# Altium footprint library OSC_ECS-3961-160-AU-TR.PcbLib: 1 footprints
Each footprint in its own frame and in the unit in brackets; x right, y up, seen from the top. Pads: shape width x height; smd on the part's side, far side on the other; paste and mask are expansions set on the pad; w line width, h text height; cw(c..) or ccw(c..) is an arc to the next point about the centre after c.
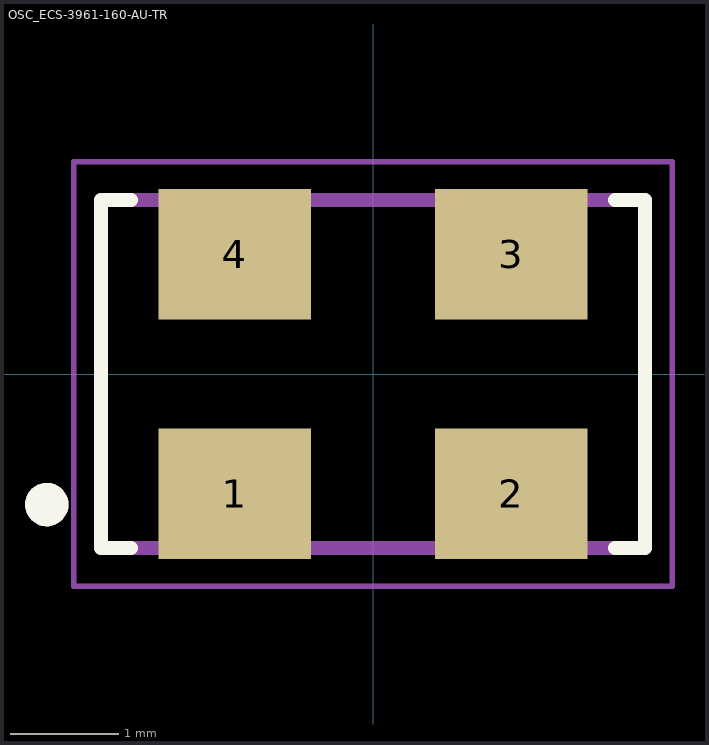
[diagram p0: the footprint, top view; thin cyan lines are the x and y axes]

## OSC_ECS-3961-160-AU-TR [mm]
pads (4):
  rect 1.4x1.2 smd: 1(-1.27,-1.1) 2(1.27,-1.1) 3(1.27,1.1) 4(-1.27,1.1)
Top Overlay:
  circle w0.2: c-3,-1.2 r0.1
  lines w0.127: -2.224,-1.6 -2.5,-1.6 -2.5,1.6 -2.224,1.6 ; 2.224,-1.6 2.5,-1.6 2.5,1.6 2.224,1.6
Mechanical 13:
  circle w0.2: c-3,-1.2 r0.1
  lines w0.127: -2.5,-1.6 -2.5,1.6 2.5,1.6 2.5,-1.6 -2.5,-1.6
Mechanical 15:
  lines w0.05: -2.75,-1.95 -2.75,1.95 2.75,1.95 2.75,-1.95 -2.75,-1.95
3D body "XO_16MHz_3.2-5.STEP": height 1.3, standoff 0, extent -2.529,-1.597 2.471,1.603